# EAGLE library part SWITCH-2CH-6P* (library OPL)
MS-22D18 G2 ROHS
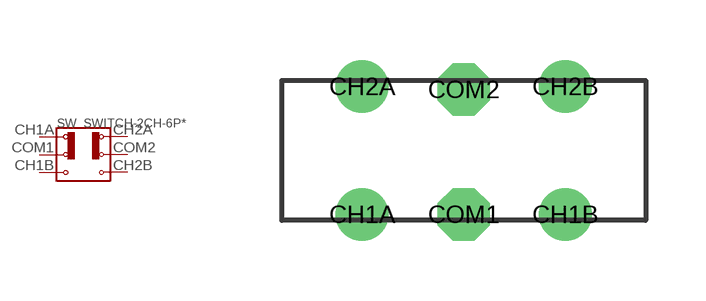
[diagram p17: symbol with the pads of 6P-2CH-2.54-9.1X3.5X3.2+2H; footprint 6P-2CH-2.54-9.1X3.5X3.2+2H]

Designator prefix SW

## SWITCH-2CH-6P-3010010P1  [6P-2CH-2.54-9.1X3.5X3.2+2H]
CH1A  CH1A
CH1B  CH1B
CH2A  CH2A
CH2B  CH2B
COM1  COM1
COM2  COM2

## Footprint 6P-2CH-2.54-9.1X3.5X3.2+2H (pad centres in mm)
drill 0.813 pad 1.27: CH1A -2.54,-1.6; CH1B 2.54,-1.6; CH2A -2.54,1.6; CH2B 2.54,1.6
drill 0.813 pad 1.27 octagon: COM1 0,-1.6; COM2 0,1.524